# Altium footprint library 控制盒基板2.PcbLib: 44 footprints (part 2 of 3)
Each footprint in its own frame and in the unit in brackets; x right, y up, seen from the top. Pads: shape width x height; smd on the part's side, far side on the other; paste and mask are expansions set on the pad; w line width, h text height; cw(c..) or ccw(c..) is an arc to the next point about the centre after c.
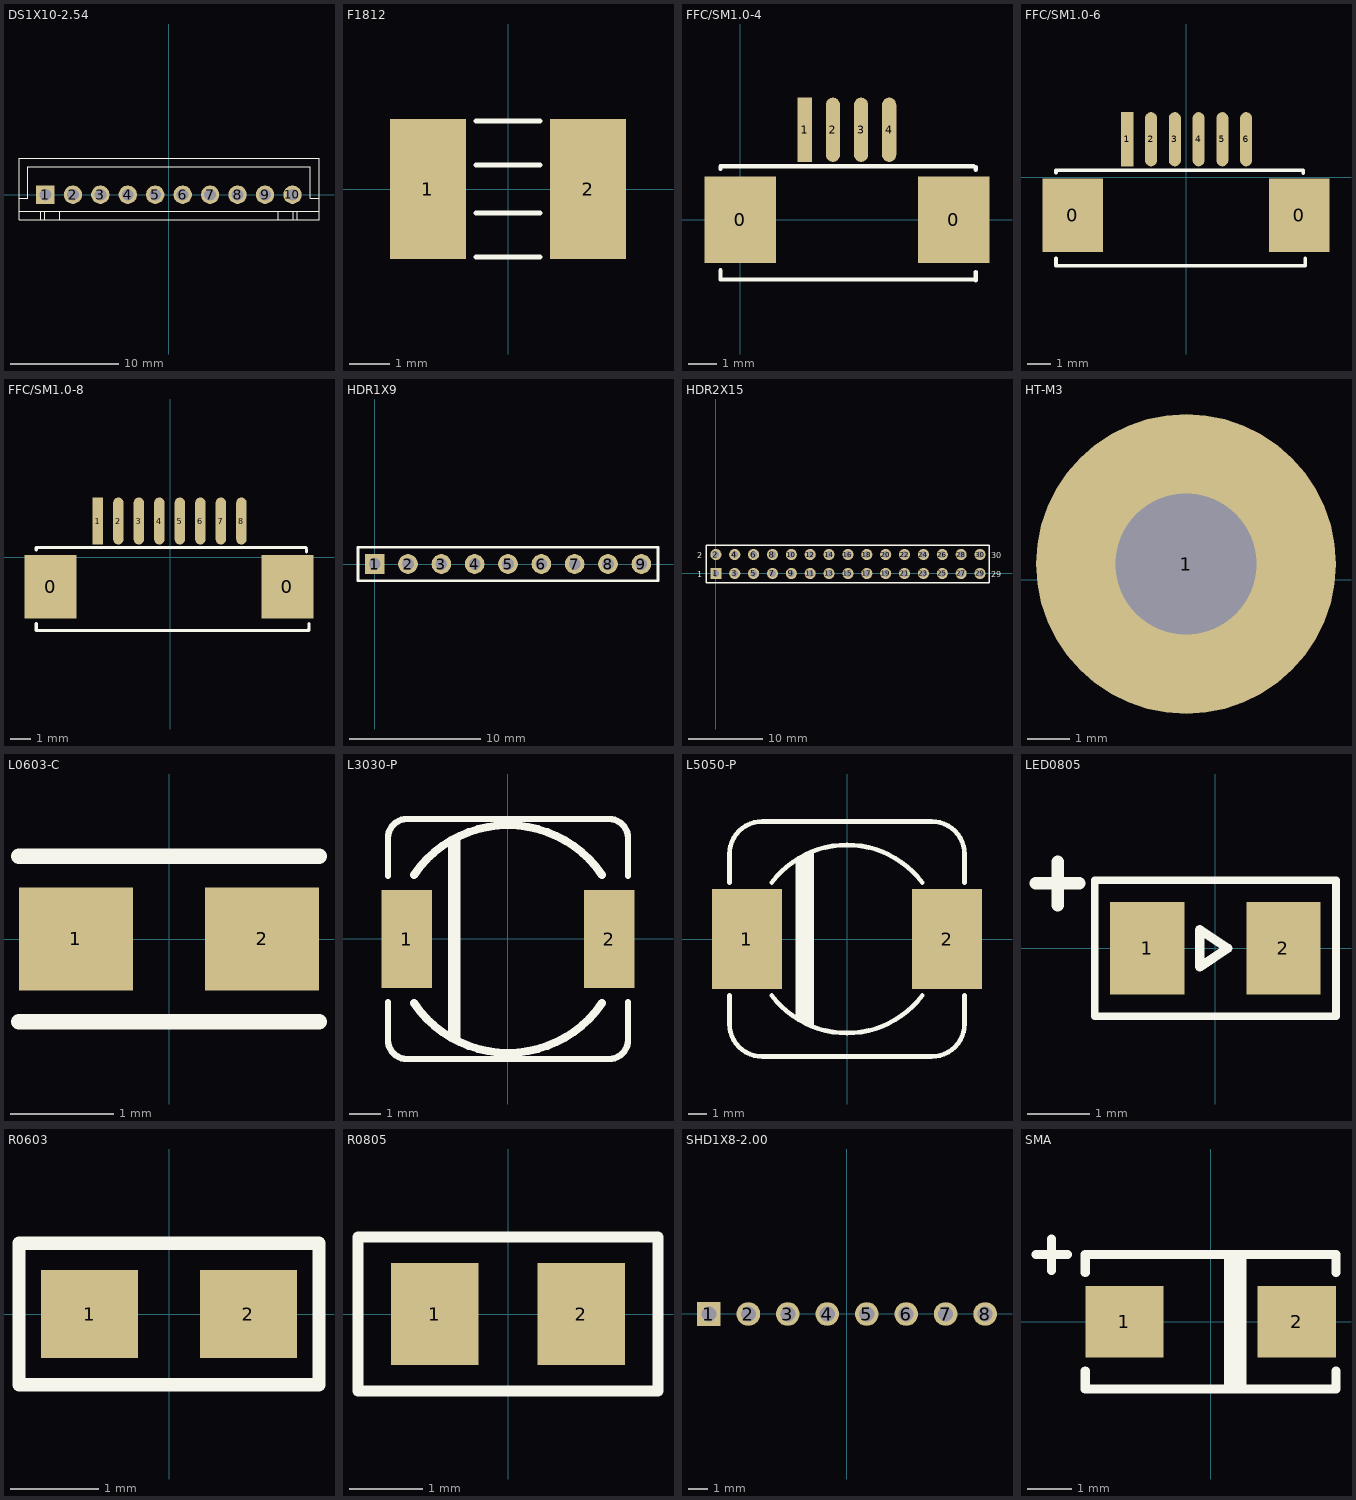
[diagram p1: the footprints below, top view; thin cyan lines are the x and y axes]

## DS1X10-2.54 [mm]
pads (10):
  rect 1.7x1.7 hole 1.1: 1(-11.43,0)
  round 1.7 hole 1.1: 2(-8.89,0) 3(-6.35,0) 4(-3.81,0) 5(-1.27,0) 6(1.27,0) 7(3.81,0) 8(6.35,0) 9(8.89,0) 10(11.43,0)
Top Overlay:
  lines w0.105: -13.876,-1.522 -13.876,-2.322 -11.876,-2.322 ; -13.876,-1.522 -11.876,-1.522 ; -13.876,-1.522 -13.876,-0.322 ; -13.876,-0.322 -13.876,3.378 13.884,3.378 13.884,-0.322 ; -13.876,-0.322 -13.076,-0.322 -13.076,2.578 13.084,2.578 13.084,-0.322 13.884,-0.322 ; -11.876,-2.322 -11.476,-2.322 ; -11.876,-2.322 -11.876,-1.522 ; -11.876,-1.522 -11.476,-1.522 ; -11.476,-2.322 -11.476,-1.522 ; -11.476,-2.322 -10.126,-2.322 ; -11.476,-1.522 -10.126,-1.522 ; -10.126,-2.322 10.134,-2.322 ; -10.126,-2.322 -10.126,-1.522 ; -10.126,-1.522 10.134,-1.522 ; 10.134,-2.322 10.134,-1.522 ; 10.134,-2.322 11.484,-2.322 ; 10.134,-1.522 11.484,-1.522 ; 11.484,-2.322 11.484,-1.522 ; 11.484,-2.322 11.884,-2.322 ; 11.484,-1.522 11.884,-1.522 ; 11.884,-2.322 13.884,-2.322 13.884,-1.522 ; 11.884,-2.322 11.884,-1.522 ; 11.884,-1.522 13.884,-1.522 ; 13.884,-1.522 13.884,-0.322
3D body: height 7, standoff -3.4, extent -13.868,-2.286 13.892,3.414

## F1812 [mm]
pads (2):
  rect 1.9x3.5 smd: 1(-2,0) 2(2,0)
Top Overlay:
  lines w0.127: -0.8,-1.7 0.8,-1.7 ; -0.8,-0.6 0.8,-0.6 ; -0.8,0.6 0.8,0.6 ; -0.8,1.7 0.8,1.7
3D body: height 0.69, standoff -0.01, extent -2.286,-1.651 2.314,1.649

## FFC/SM1.0-4 [mm]
pads (6):
  rect 2.54x3.08 smd: 0(0,0) 0(7.6,0)
  rect 0.508x2.286 smd: 1(2.3,3.2)
  oval 0.508x2.286 smd: 2(3.3,3.2) 3(4.3,3.2) 4(5.3,3.2)
Top Overlay:
  lines w0.15: -0.7,-2.13 8.3,-2.13 ; -0.7,-2.1 -0.7,-1.8 ; -0.7,1.8 -0.7,1.9 3.854,1.9 8.3,1.9 ; 8.382,-2.159 8.382,-1.859 ; 8.382,1.778 8.382,1.878

## FFC/SM1.0-6 [mm]
pads (8):
  rect 2.54x3.08 smd: 0(-4.77,-1.6) 0(4.77,-1.6)
  rect 0.508x2.286 smd: 1(-2.47,1.6)
  oval 0.508x2.286 smd: 2(-1.47,1.6) 3(-0.47,1.6) 4(0.53,1.6) 5(1.53,1.6) 6(2.53,1.6)
Top Overlay:
  lines w0.15: -5.47,-3.73 3.53,-3.73 5.01,-3.73 ; -5.47,-3.7 -5.47,-3.4 ; -5.47,0.2 -5.47,0.3 -0.916,0.3 3.53,0.3 ; 3.55,0.3 4.94,0.3 ; 4.94,0.18 4.94,0.28 ; 5.01,-3.7 5.01,-3.4

## FFC/SM1.0-8 [mil]
pads (10):
  rect 100x121.26 smd: 0(-229.17,-55.99) 0(225.16,-55.99)
  rect 20x90 smd: 1(-138.61,69.99)
  oval 20x90 smd: 2(-99.24,69.99) 3(-59.87,69.99) 4(-20.5,69.99) 5(18.87,69.99) 6(58.24,69.99) 7(97.61,69.99) 8(136.98,69.99)
Top Overlay:
  lines w5.91: -256.72,-139.85 97.61,-139.85 155.88,-139.85 ; -256.72,-138.67 -256.72,-126.86 ; -256.72,14.87 -256.72,18.81 -77.43,18.81 97.61,18.81 ; 98.39,18.81 153.12,18.81 ; 152.63,19 260.63,19 261.63,18 ; 154.63,-140 266.63,-140 ; 261.63,11.06 261.63,15 ; 264.63,-138 265.63,-139 ; 266.63,-138.81 266.63,-127

## HDR1X9 [mm] "Connector; Header; 9 Position"
pads (9):
  rect 1.5x1.5 hole 0.9: 1(0,0)
  round 1.5 hole 0.9: 2(2.54,0) 3(5.08,0) 4(7.62,0) 5(10.16,0) 6(12.7,0) 7(15.24,0) 8(17.78,0) 9(20.32,0)
Top Overlay:
  lines w0.2: -1.27,-1.27 -1.27,1.27 21.59,1.27 21.59,-1.27 -1.27,-1.27

## HDR2X15 [mm] "Connector; Header; 15x2 Position"
pads (30):
  rect 1.5x1.5 hole 0.9: 1(0,0)
  round 1.5 hole 0.9: 2(0,2.54) 3(2.54,0) 4(2.54,2.54) 5(5.08,0) 6(5.08,2.54) 7(7.62,0) 8(7.62,2.54) 9(10.16,0) 10(10.16,2.54) 11(12.7,0) 12(12.7,2.54) 13(15.24,0) 14(15.24,2.54) 15(17.78,0) 16(17.78,2.54) 17(20.32,0) 18(20.32,2.54) 19(22.86,0) 20(22.86,2.54) 21(25.4,0) 22(25.4,2.54) 23(27.94,0) 24(27.94,2.54) 25(30.48,0) 26(30.48,2.54) 27(33.02,0) 28(33.02,2.54) 29(35.56,0) 30(35.56,2.54)
Top Overlay:
  lines w0.2: -1.27,-1.27 -1.27,3.81 36.83,3.81 36.83,-1.27 -1.27,-1.27
  text "30" at 37.084,2.032 h0.76
  text "29" at 37.084,-0.508 h0.76
  text "2" at -2.54,2.032 h0.76
  text "1" at -2.54,-0.508 h0.76

## HT-M3 [mm]
pads (1):
  round 7 hole 3.3: 1(-16.011,0.364)

## L0603-C [mm]
pads (2):
  rect 1.1x1 smd: 1(-0.9,0) 2(0.9,0)
Top Overlay:
  lines w0.152: -1.45,-0.8 1.45,-0.8 ; -1.45,0.8 0,0.8 1.45,0.8
3D body: height 0.46, standoff 0, extent -0.762,-0.386 0.762,0.381

## L3030-P [mm]
pads (2):
  rect 1.6x3.1 smd: 1(-3.2,0) 2(3.2,0)
Top Overlay:
  rectangle: -1.9,-3.2 -1.5,3.2
  lines w0.203: -3.8,-2 -3.8,-3.2 ccw(c-3.2,-3.2) -3.2,-3.8 3.2,-3.8 ccw(c3.2,-3.2) 3.8,-3.2 3.8,-2 ; -3.8,2 -3.8,3.2 cw(c-3.2,3.2) -3.2,3.8 3.2,3.8 cw(c3.2,3.2) 3.8,3.2 3.8,2
  lines w0.254: -2.977,-2.034 ccw(c0,0) 2.977,-2.034 ; -2.977,2.034 cw(c0,0) 2.977,2.034
3D body: height 4.36, standoff 0, extent -3.5,-3.55 3.5,3.45

## L5050-P [mm]
pads (2):
  rect 3.8x5.4 smd: 1(-5.4,0) 2(5.4,0)
Top Overlay:
  lines w0.254: -6.35,-3.048 -6.35,-4.572 ccw(c-4.572,-4.572) -4.572,-6.35 4.572,-6.35 ccw(c4.572,-4.572) 6.35,-4.572 6.35,-3.048 ; -6.35,3.048 -6.35,4.572 cw(c-4.572,4.572) -4.572,6.35 4.572,6.35 cw(c4.572,4.572) 6.35,4.572 6.35,3.048 ; -4.064,-3.048 ccw(c0,0) 4.064,-3.048 ; -4.064,3.048 cw(c0,0) 4.064,3.048 ; -2.667,-4.318 -2.667,4.318 ; -2.413,-4.445 -2.413,4.445 ; -2.159,-4.572 -2.159,4.572 ; -1.905,-4.699 -1.905,4.699
3D body: height 6, standoff 0, extent -6.179,-5.969 6.121,6.331

## LED0805 [mm]
height 3.6
pads (2):
  rect 1.2x1.5 smd: 1(-1.1,0) 2(1.1,0)
Top Overlay:
  lines w0.127: -1.95,-1.1 1.95,-1.1 1.95,1.1 -1.95,1.1 -1.95,-1.1
  lines w0.152: -0.25,-0.3 -0.25,0 -0.25,0.3 0.2,0 -0.25,-0.3
  lines w0.203: -2.9,1.05 -2.55,1.05 ; -2.55,0.7 -2.55,1.05 ; -2.55,1.4 -2.55,1.05 ; -2.2,1.05 -2.55,1.05
3D body: height 0.56, standoff 0, extent -1.016,-0.64 1.016,0.635

## R0603 [mm]
pads (2):
  rect 1.1x1 smd: 1(-0.9,0) 2(0.9,0)
Top Overlay:
  lines w0.152: -1.7,-0.8 -1.7,0.8 0.152,0.8 1.7,0.8 1.7,-0.8 -1.7,-0.8
3D body: height 0.46, standoff 0, extent -0.787,-0.386 0.737,0.381

## R0805 [mm]
pads (2):
  rect 1.2x1.4 smd: 1(-1,0) 2(1,0)
Top Overlay:
  lines w0.152: -2.05,-1.05 -2.05,1.05 2.05,1.05 2.05,-1.05 -2.05,-1.05
3D body: height 0.61, standoff 0, extent -1.016,-0.653 1.016,0.622

## SHD1X8-2.00 [mm]
pads (8):
  rect 1.2x1.2 hole 0.762: 1(-7,0)
  round 1.2 hole 0.762: 2(-5,0) 3(-3,0) 4(-1,0) 5(1,0) 6(3,0) 7(5,0) 8(7,0)

## SMA [mm]
pads (2):
  rect 1.75x1.6 smd: 1(-1.925,0) 2(1.925,0)
Top Overlay:
  rectangle: 0.3,-1.5 0.806,1.5
  lines w0.203: -3.9,1.5 -3.55,1.5 ; -3.55,1.15 -3.55,1.5 ; -3.55,1.85 -3.55,1.5 ; -3.2,1.5 -3.55,1.5 ; -2.8,-1.1 -2.8,-1.5 2.8,-1.5 2.8,-1.1 ; -2.8,1.1 -2.8,1.5 2.8,1.5 2.8,1.1